# EAGLE library part TAGCONNECT-TC2030-NL (library EagleLibrary)
TagConnect 6-pin Receptacle
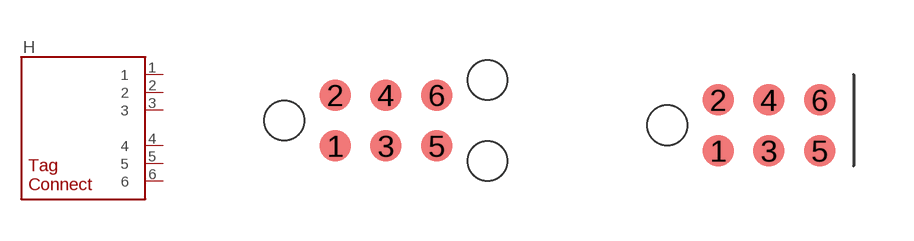
[diagram p51: symbol with the pads of TAGCONNECT-TC2030-NL; footprints TAGCONNECT-TC2030-NL, TAGCONNECT-TC2030-NL-EDGE]

Designator prefix H

## TAGCONNECT-TC2030-NL  [TAGCONNECT-TC2030-NL]
1  1
2  2
3  3
4  4
5  5
6  6

## TAGCONNECT-TC2030-NLEDGE  [TAGCONNECT-TC2030-NL-EDGE]
Pads as for TAGCONNECT-TC2030-NL

## Footprint TAGCONNECT-TC2030-NL (pad centres in mm)
smd 0.787 x 0.787: 1 -1.27,-0.635; 2 -1.27,0.635; 3 0,-0.635; 4 0,0.635; 5 1.27,-0.635; 6 1.27,0.635
hole 0.991 at -2.54,0
hole 0.991 at 2.54,1.016
hole 0.991 at 2.54,-1.016

## Footprint TAGCONNECT-TC2030-NL-EDGE (pad centres in mm)
smd 0.787 x 0.787: 1 -1.27,-0.635; 2 -1.27,0.635; 3 0,-0.635; 4 0,0.635; 5 1.27,-0.635; 6 1.27,0.635
hole 0.991 at -2.54,0